# EAGLE library part ADAFRUIT_MICROSD_BRBRD (library TMS99)
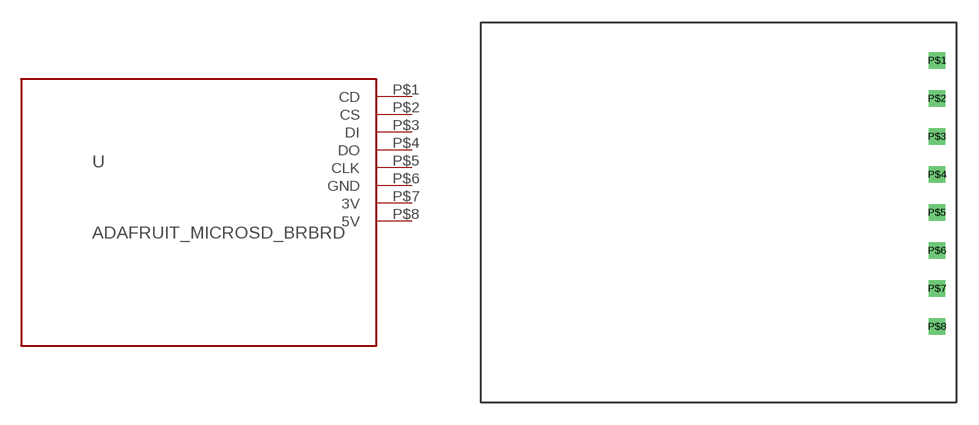
[diagram p8: symbol with the pads of ADAFRUIT_MICROSD_BREAKOUT_PKG; footprint ADAFRUIT_MICROSD_BREAKOUT_PKG]

Designator prefix -

## ADAFRUIT_MICROSD_BRBRD  [ADAFRUIT_MICROSD_BREAKOUT_PKG]
P$1  CD
P$2  CS
P$3  DI
P$4  DO
P$5  CLK
P$6  GND
P$7  3V
P$8  5V

## Footprint ADAFRUIT_MICROSD_BREAKOUT_PKG (pad centres in mm)
drill 0.6 square: P$1 30.48,22.86; P$2 30.48,20.32; P$3 30.48,17.78; P$4 30.48,15.24; P$5 30.48,12.7; P$6 30.48,10.16; P$7 30.48,7.62; P$8 30.48,5.08